# Altium schematic symbol library TPth.SchLib: 1 symbol
Pins are listed as number, name and electrical type; pins without a type are passive.

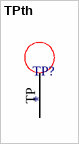
[diagram p0: symbol TPth]

## TPth
designator TP?
footprint TPth
pins: TP